# Altium footprint library env_sens_pcb.PcbLib: 24 footprints (part 2 of 2)
Each footprint in its own frame and in the unit in brackets; x right, y up, seen from the top. Pads: shape width x height; smd on the part's side, far side on the other; paste and mask are expansions set on the pad; w line width, h text height; cw(c..) or ccw(c..) is an arc to the next point about the centre after c.
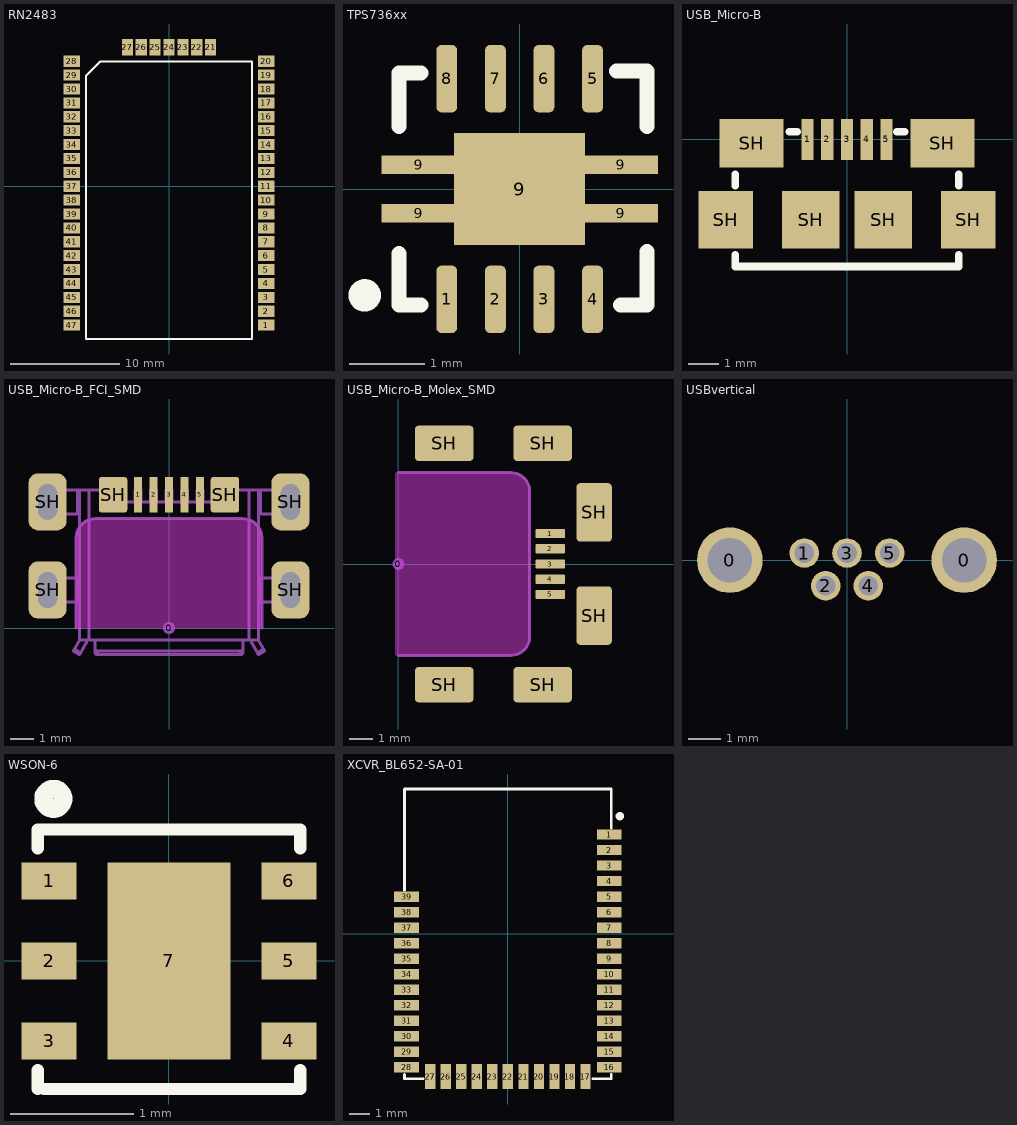
[diagram p1: the footprints below, top view; thin cyan lines are the x and y axes]

## RN2483 [mil]
pads (47):
  rect 60x40 smd: 1(350,-500) 2(350,-450) 3(350,-400) 4(350,-350) 5(350,-300) 6(350,-250) 7(350,-200) 8(350,-150) 9(350,-100) 10(350,-50) 11(350,0) 12(350,50) 13(350,100) 14(350,150) 15(350,200) 16(350,250) 17(350,300) 18(350,350) 19(350,400) 20(350,450) 28(-350,450) 29(-350,400) 30(-350,350) 31(-350,300) 32(-350,250) 33(-350,200) 34(-350,150) 35(-350,100) 36(-350,50) 37(-350,0) 38(-350,-50) 39(-350,-100) 40(-350,-150) 41(-350,-200) 42(-350,-250) 43(-350,-300) 44(-350,-350) 45(-350,-400) 46(-350,-450) 47(-350,-500)
  rect 40x60 smd: 21(150,500) 22(100,500) 23(50,500) 24(0,500) 25(-50,500) 26(-100,500) 27(-150,500)
Top Overlay:
  lines w7.87: -298.94,-550 298.94,-550 298.94,448.94 -247.87,448.94 -298.94,397.87 -298.94,-550

## TPS736xx [mm]
pads (13):
  rrect50% 0.28x0.9 smd: 1(-0.975,-1.475) 2(-0.325,-1.475) 3(0.325,-1.475) 4(0.975,-1.475) 5(0.975,1.475) 6(0.325,1.475) 7(-0.325,1.475) 8(-0.975,1.475)
  rect 1x0.25 smd: 9(-1.35,-0.325) 9(-1.35,0.325) 9(1.35,-0.325) 9(1.35,0.325)
  rect 1.75x1.5 smd: 9(0,0)
Top Overlay:
  circle w0.254: c-2.071,-1.422 r0.09
  lines w0.2: -1.614,-0.864 -1.614,-1.549 -1.321,-1.549 ; -1.614,0.838 -1.614,1.548 -1.321,1.549 ; 1.295,1.575 1.702,1.575 1.702,0.838 ; 1.346,-1.549 1.702,-1.549 1.702,-0.838

## USB_Micro-B [mm]
height 1.2
pads (11):
  rect 0.4x1.35 smd: 1(-1.3,0) 2(-0.65,0) 3(0,0) 4(0.65,0) 5(1.3,0)
  rect 1.8x1.9 smd: SH(-4,-2.65) SH(4,-2.65)
  rect 2.1x1.6 smd: SH(-3.15,-0.127) SH(3.15,-0.127)
  rect 1.9x1.9 smd: SH(-1.2,-2.65) SH(1.2,-2.65)
Top Overlay:
  lines w0.254: -3.683,-3.81 -3.683,-4.191 3.683,-4.191 3.683,-3.81 ; -3.683,-1.524 -3.683,-1.143 ; -1.905,0.254 -1.651,0.254 ; 1.651,0.254 1.905,0.254 ; 3.683,-1.524 3.683,-1.143

## USB_Micro-B_FCI_SMD [mm]
height 2.286
pads (12):
  round 0.508 on Mech15: 0(0,0)
  rrect20% 0.35x1.5 smd: 1(-1.3,5.6) 2(-0.65,5.6) 3(0,5.6) 4(0.65,5.6) 5(1.3,5.6)
  rrect50% 1.6x2.4 hole 0.8 slot 1.5 at 90 deg: SH(-5.1,1.6) SH(-5.1,5.3) SH(5.1,1.6) SH(5.1,5.3)
  rrect20% 1.2x1.5 smd: SH(-2.35,5.6) SH(2.35,5.6)
Keep-Out Layer:
  board cut-out: -3.9,0 -3.9,3.797 -3.9,3.875 -3.869,4.03 -3.809,4.175 -3.721,4.307 -3.61,4.418 -3.479,4.505 -3.333,4.566 -3.179,4.597 -3.1,4.597 3.1,4.597 3.179,4.597 3.333,4.566 3.479,4.505 3.61,4.418 3.721,4.307 3.809,4.175 3.869,4.03 3.9,3.875 3.9,3.797 3.9,0
Mechanical 13:
  lines w0.127: -4.85,1.1 -4.85,2.1 ; -4.85,4.8 -4.85,5.8 ; -3.97,-0.881 -3.71,-1.031 ; -3.85,1.1 -3.85,2.1 ; -3.85,4.8 -3.85,5.8 ; -3.75,1.1 -5.25,1.1 -5.25,2.1 -3.75,2.1 ; -3.75,4.8 -5.25,4.8 -5.25,5.8 -2.577,5.8 cw(c-2.577,5.6) -2.443,5.748 -2.007,5.352 ccw(c-1.873,5.5) -1.873,5.3 1.873,5.3 ccw(c1.873,5.5) 2.007,5.352 2.443,5.748 cw(c2.577,5.6) 2.577,5.8 5.25,5.8 5.25,4.8 3.75,4.8 ; -3.75,5.8 -3.75,-0.5 ; -3.45,-0.5 cw(c-3.75,-0.501) -3.49,-0.651 -3.76,-1.118 -4.02,-0.968 -3.75,-0.5 ; -3.35,-0.5 -3.35,5.8 ; -3.1,-0.881 ccw(c-3.006,-0.874) -3,-0.968 ; -2.526,5.793 -2.526,5.8 ; -2.229,5.553 ccw(c-2.275,5.8) -2.024,5.8 -1.825,5.8 -1.825,5.3 ; -1.425,5.3 -1.425,5.8 -1.175,5.8 -1.175,5.3 ; -0.775,5.3 -0.775,5.8 -0.525,5.8 -0.525,5.3 ; -0.125,5.3 -0.125,5.8 0.125,5.8 0.125,5.3 ; 0.525,5.3 0.525,5.8 0.775,5.8 0.775,5.3 ; 1.175,5.3 1.175,5.8 1.425,5.8 1.425,5.3 ; 1.825,5.3 1.825,5.8 2.024,5.8 ccw(c2.275,5.8) 2.229,5.553 ; 2.526,5.793 2.526,5.8 ; 3.1,-0.881 cw(c3.006,-0.874) 3,-0.968 ; 3.35,-0.5 3.35,5.8 ; 3.45,-0.5 ccw(c3.75,-0.501) 3.49,-0.651 3.76,-1.118 4.02,-0.968 3.75,-0.5 ; 3.71,-1.031 3.97,-0.881 ; 3.75,1.1 5.25,1.1 5.25,2.1 3.75,2.1 ; 3.75,5.8 3.75,-0.5 ; 3.85,1.1 3.85,2.1 ; 3.85,4.8 3.85,5.8 ; 4.85,1.1 4.85,2.1 ; 4.85,4.8 4.85,5.8 ; -3.75,-0.5 -3.1,-0.5 ; -3.1,-0.5 3.1,-0.501 ; -3.1,-0.5 -3.1,-1.031 ccw(c-3.006,-1.024) -3,-1.118 ; -3,-1.118 3,-1.118 ; -3,-1.118 -3,-0.968 ; -3,-0.968 3,-0.968 ; 3,-1.118 ccw(c3.006,-1.024) 3.1,-1.031 3.1,-0.5 ; 3,-1.118 3,-0.968 ; 3.1,-0.5 3.75,-0.5
Mechanical 15:
  lines w0.127: -3.9,0 -3.9,3.797 cw(c-3.1,3.797) -3.1,4.597 3.1,4.597 cw(c3.1,3.797) 3.9,3.797 3.9,0
3D body "Micro USB B-type mid-mount FCI.STEP": height 2.15, standoff -0.92, extent -5.25,-1.118 5.25,5.8

## USB_Micro-B_Molex_SMD [mm]
height 1.2
pads (12):
  round 0.508 on Mech15: 0(0,0)
  rrect20% 1.25x0.4 smd: 1(6.475,1.3) 2(6.475,0.65) 3(6.475,0) 4(6.475,-0.65) 5(6.475,-1.3)
  rrect20% 2.5x1.5 smd: SH(1.95,-5.15) SH(1.95,5.15) SH(6.15,-5.15) SH(6.15,5.15)
  rrect20% 1.5x2.5 smd: SH(8.35,-2.2) SH(8.35,2.2)
Top Solder:
  rectangle: 5.842,-1.27 7.112,1.27
Keep-Out Layer:
  board cut-out: -0.127,3.9 4.8,3.9 4.879,3.9 5.033,3.869 5.179,3.809 5.31,3.721 5.421,3.61 5.509,3.479 5.569,3.333 5.6,3.179 5.6,3.1 5.6,-3.1 5.6,-3.179 5.569,-3.333 5.509,-3.479 5.421,-3.61 5.31,-3.721 5.179,-3.809 5.033,-3.869 4.879,-3.9 4.8,-3.9 -0.127,-3.9
Mechanical 13:
  lines w0.127: 0,-3.9 4.8,-3.9 ccw(c4.8,-3.1) 5.6,-3.1 5.6,3.1 ccw(c4.8,3.1) 4.8,3.9 0,3.9

## USBvertical [mm]
pads (7):
  round 2 hole 1.35: 0(-3.575,0) 0(3.575,0)
  round 0.9 hole 0.6: 1(-1.3,0.22) 2(-0.65,-0.78) 3(0,0.22) 4(0.65,-0.78) 5(1.3,0.22)

## WSON-6 [mm]
pads (7):
  rect 0.45x0.3 smd: 1(-0.975,0.65) 2(-0.975,0) 3(-0.975,-0.65) 4(0.975,-0.65) 5(0.975,0) 6(0.975,0.65)
  rect 1x1.6 smd: 7(0,0)
Top Overlay:
  lines w0.1: -1.067,-1.041 -1.067,-0.889 ; -1.067,0.914 -1.067,1.067 1.067,1.067 1.067,0.914 ; -1.016,-1.041 1.067,-1.041 1.067,-0.889
  lines w0.15: -1.02,1.314 cw(c-0.94,1.316) -1.019,1.305

## XCVR_BL652-SA-01 [mm]
pads (39):
  rect 1.2x0.5 smd: 1(4.9,4.8) 2(4.9,4.05) 3(4.9,3.3) 4(4.9,2.55) 5(4.9,1.8) 6(4.9,1.05) 7(4.9,0.3) 8(4.9,-0.45) 9(4.9,-1.2) 10(4.9,-1.95) 11(4.9,-2.7) 12(4.9,-3.45) 13(4.9,-4.2) 14(4.9,-4.95) 15(4.9,-5.7) 16(4.9,-6.45) 28(-4.9,-6.45) 29(-4.9,-5.7) 30(-4.9,-4.95) 31(-4.9,-4.2) 32(-4.9,-3.45) 33(-4.9,-2.7) 34(-4.9,-1.95) 35(-4.9,-1.2) 36(-4.9,-0.45) 37(-4.9,0.3) 38(-4.9,1.05) 39(-4.9,1.8)
  rect 0.5x1.2 smd: 17(3.75,-6.9) 18(3,-6.9) 19(2.25,-6.9) 20(1.5,-6.9) 21(0.75,-6.9) 22(0,-6.9) 23(-0.75,-6.9) 24(-1.5,-6.9) 25(-2.25,-6.9) 26(-3,-6.9) 27(-3.75,-6.9)
Top Overlay:
  circle w0.2: c5.409,5.686 r0.1
  lines w0.127: -5,-6.8 -5,-7 -4.1,-7 ; -5,2.1 -5,7 5,7 5,5.1 ; 4.1,-7 5,-7 5,-6.8